# Altium footprint library mirco2440-4l1.PcbLib: 28 footprints (part 2 of 2)
Each footprint in its own frame and in the unit in brackets; x right, y up, seen from the top. Pads: shape width x height; smd on the part's side, far side on the other; paste and mask are expansions set on the pad; w line width, h text height; cw(c..) or ccw(c..) is an arc to the next point about the centre after c.
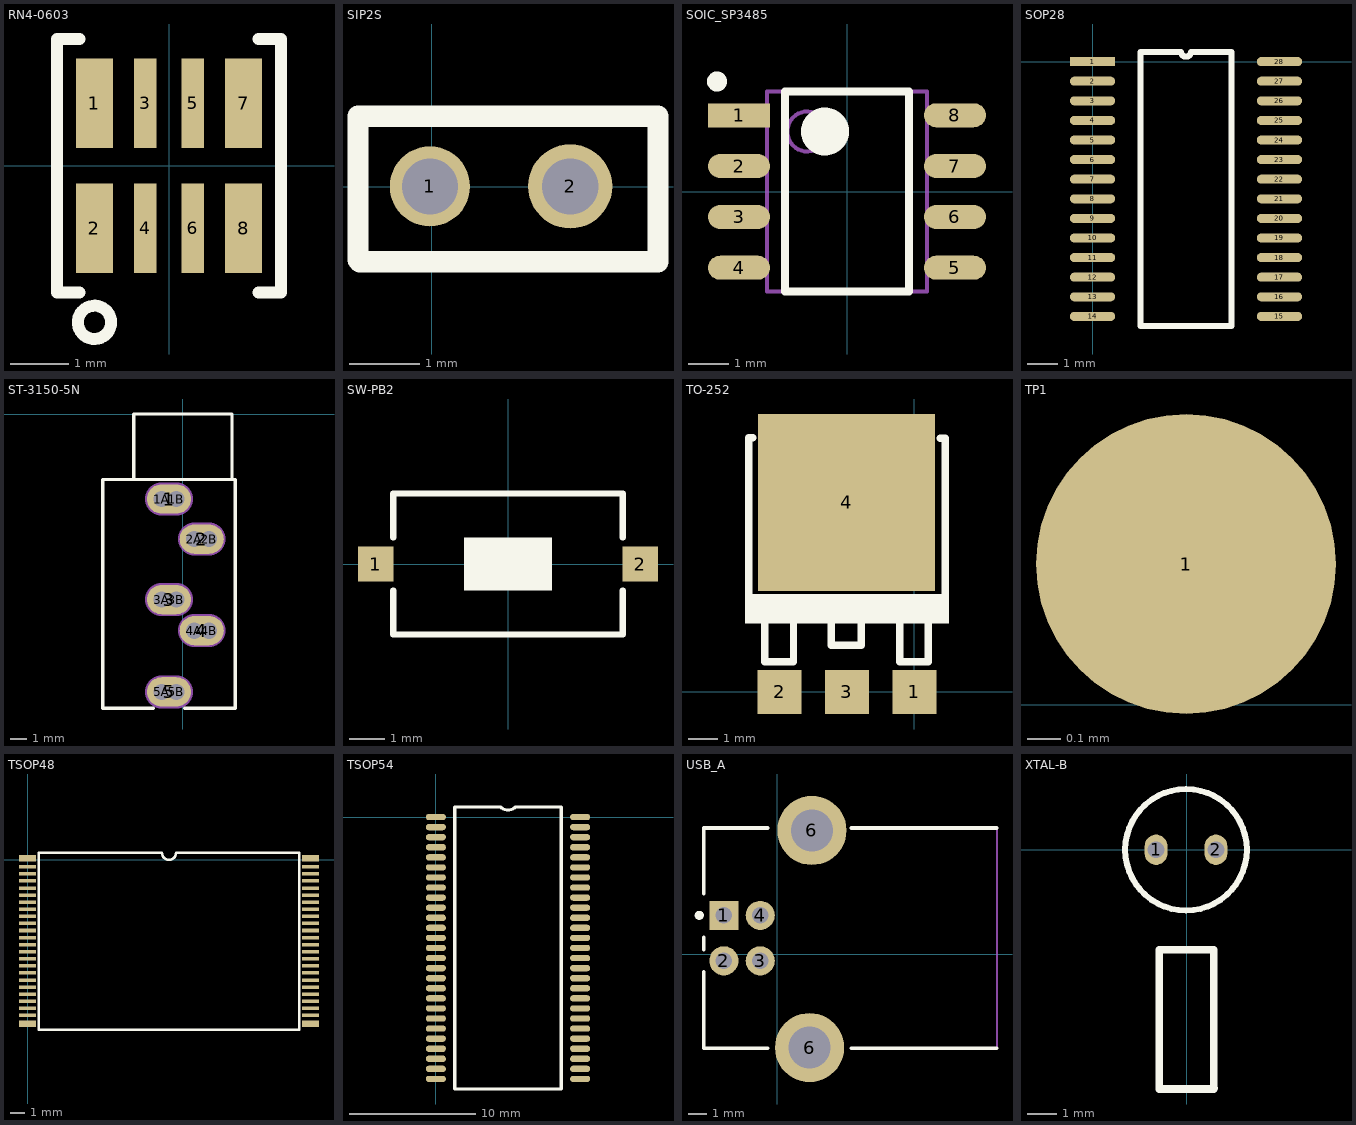
[diagram p1: the footprints below, top view; thin cyan lines are the x and y axes]

## RN4-0603 [mil]
pads (8):
  rect 25x60 smd: 1(-50,42) 2(-50,-42) 7(50,42) 8(50,-42)
  rect 15x60 smd: 3(-16,42) 4(-16,-42) 5(16,42) 6(16,-42)
Top Overlay:
  circle w8: c-50,-105 r11.18
  lines w8: -60,-85 -75,-85 -75,85 -60,85 ; 60,-85 75,-85 75,85 60,85

## SIP2S [mm]
pads (2):
  round 1.143 hole 0.8: 1(-0.027,0.005)
  round 1.2 hole 0.8: 2(1.973,0.005)
Top Overlay:
  lines w0.305: -1.052,-1.045 -1.027,-1.07 3.225,-1.07 3.225,1.005 -1.052,1.005 -1.052,0.005 -1.052,-1.045

## SOIC_SP3485 [mm]
height 4.65
pads (8):
  rect 1.55x0.6 smd: 1(-2.7,1.905)
  oval 1.55x0.6 smd: 2(-2.7,0.635) 3(-2.7,-0.635) 4(-2.7,-1.905) 5(2.7,-1.905) 6(2.7,-0.635) 7(2.7,0.635) 8(2.7,1.905)
Mid-Layer 2:
  lines w0.05: -0.5,0 0.5,0 ; 0,-0.5 0,0.5 ; -3.75,-2.75 3.75,-2.75 3.75,2.75 -3.75,2.75 -3.75,-2.75
Mid-Layer 3:
  lines w0.001: -1.994,-2.5 1.994,-2.5 1.994,2.5 -1.994,2.5 -1.994,-2.5
Top Overlay:
  circle w0.25: c-3.25,2.75 r0.125
  circle w0.6: c-0.55,1.5 r0.3
  lines w0.2: -1.55,-2.5 1.55,-2.5 1.55,2.5 -1.55,2.5 -1.55,-2.5
Mechanical 15:
  circle w0.1: c-0.994,1.5 r0.5
  lines w0.1: -1.994,-2.5 1.994,-2.5 1.994,2.5 -1.994,2.5 -1.994,-2.5
  text "1" at 0.45,-0.164 h0.75

## SOP28 [mm]
pads (28):
  rect 1.5x0.3 smd: 1(0,0)
  oval 1.5x0.3 smd: 2(0,-0.65) 3(0,-1.3) 4(0,-1.95) 5(0,-2.6) 6(0,-3.25) 7(0,-3.9) 8(0,-4.55) 9(0,-5.2) 10(0,-5.85) 11(0,-6.5) 12(0,-7.15) 13(0,-7.8) 14(0,-8.45) 15(6.2,-8.45) 16(6.2,-7.8) 17(6.2,-7.15) 18(6.2,-6.5) 19(6.2,-5.85) 20(6.2,-5.2) 21(6.2,-4.55) 22(6.2,-3.9) 23(6.2,-3.25) 24(6.2,-2.6) 25(6.2,-1.95) 26(6.2,-1.3) 27(6.2,-0.65) 28(6.2,0)
Top Overlay:
  lines w0.2: 1.585,-8.775 1.585,0.325 2.937,0.325 ccw(c3.1,0.325) 3.262,0.325 4.615,0.325 4.615,-8.775 1.585,-8.775

## ST-3150-5N [mm] "Connector; Stereo Jack, 3.5mm, 5 Position"
pads (15):
  oval 2.7x1.8 all layers, no hole: 1(-0.85,-5.2) 2(1.15,-7.65) 3(-0.85,-11.35) 4(1.15,-13.25) 5(-0.85,-17)
  round 1.2 hole 1: 1A(-1.3,-5.2) 1B(-0.4,-5.2) 2A(0.7,-7.65) 2B(1.6,-7.65) 3A(-1.3,-11.35) 3B(-0.4,-11.35) 4A(0.7,-13.25) 4B(1.6,-13.25) 5A(-1.3,-17) 5B(-0.4,-17)
Top Overlay:
  lines w0.2: -3,-4 -3,0 3,0 3,-4 ; -1.8,-18 -4.9,-18 -4.9,-4 3.2,-4 3.2,-18 0.1,-18
Mechanical 1:
  lines w1: -1.3,-17 -0.4,-17 ; -1.3,-11.35 -0.4,-11.35 ; -1.3,-5.2 -0.4,-5.2 ; 0.7,-13.25 1.6,-13.25 ; 0.7,-7.65 1.6,-7.65
Mechanical 2:
  lines w2.016: -1.3,-17 -0.4,-17 ; -1.3,-11.35 -0.4,-11.35 ; -1.3,-5.2 -0.4,-5.2 ; 0.7,-13.25 1.6,-13.25 ; 0.7,-7.65 1.6,-7.65

## SW-PB2 [mm]
pads (2):
  rect 1x1 smd: 1(-3.75,0) 2(3.75,0)
Top Overlay:
  rectangle: -1.25,-0.75 1.25,0.75
  lines w0.178: -3.25,-0.75 -3.25,-2 3.25,-2 3.25,-0.75 ; -3.25,0.75 -3.25,2 3.25,2 3.25,0.75

## TO-252 [mm]
pads (4):
  rect 1.5x1.5 smd: 1(0.003,-0.012) 2(-4.569,-0.012) 3(-2.283,-0.012)
  rect 6x6 smd: 4(-2.297,6.413)
Top Overlay:
  rectangle: -5.745,2.312 1.18,3.312
  lines w0.254: -5.622,3.138 -5.622,8.613 ; -5.597,8.613 -5.472,8.613 ; -5.072,2.263 -5.072,1.013 -4.097,1.013 -4.097,2.288 ; -2.822,2.263 -2.822,1.563 -1.797,1.563 -1.797,2.363 ; -0.497,2.263 -0.497,1.013 0.478,1.013 0.478,2.288 ; 0.878,8.588 1.028,8.588 ; 1.053,3.163 1.053,8.588

## TP1 [mil]
pads (1):
  round 35 smd: 1(79.4,16.4)

## TSOP48 [mm]
pads (48):
  rect 1.2x0.45 smd: 1(-0.021,0.113) 24(-0.021,-11.587) 25(19.979,-11.587) 48(19.979,0.113)
  rect 1.2x0.25 smd: 2(-0.021,-0.487) 3(-0.021,-0.987) 4(-0.021,-1.487) 5(-0.021,-1.987) 6(-0.021,-2.487) 7(-0.021,-2.987) 8(-0.021,-3.487) 9(-0.021,-3.987) 10(-0.021,-4.487) 11(-0.021,-4.987) 12(-0.021,-5.487) 13(-0.021,-5.987) 14(-0.021,-6.487) 15(-0.021,-6.987) 16(-0.021,-7.487) 17(-0.021,-7.987) 18(-0.021,-8.487) 19(-0.021,-8.987) 20(-0.021,-9.487) 21(-0.021,-9.987) 22(-0.021,-10.487) 23(-0.021,-10.987) 26(19.979,-10.987) 27(19.979,-10.487) 28(19.979,-9.987) 29(19.979,-9.487) 30(19.979,-8.987) 31(19.979,-8.487) 32(19.979,-7.987) 33(19.979,-7.487) 34(19.979,-6.987) 35(19.979,-6.487) 36(19.979,-5.987) 37(19.979,-5.487) 38(19.979,-4.987) 39(19.979,-4.487) 40(19.979,-3.987) 41(19.979,-3.487) 42(19.979,-2.987) 43(19.979,-2.487) 44(19.979,-1.987) 45(19.979,-1.487) 46(19.979,-0.987) 47(19.979,-0.487)
Top Overlay:
  lines w0.178: 0.779,-11.987 0.779,0.513 9.479,0.513 ccw(c9.979,0.513) 10.479,0.513 19.179,0.513 19.179,-11.987 0.779,-11.987

## TSOP54 [mm]
pads (54):
  oval 1.6x0.5 smd: 1(-0.007,-0.003) 2(-0.007,-0.803) 3(-0.007,-1.603) 4(-0.007,-2.403) 5(-0.007,-3.203) 6(-0.007,-4.003) 7(-0.007,-4.803) 8(-0.007,-5.603) 9(-0.007,-6.403) 10(-0.007,-7.203) 11(-0.007,-8.003) 12(-0.007,-8.803) 13(-0.007,-9.603) 14(-0.007,-10.403) 15(-0.007,-11.203) 16(-0.007,-12.003) 17(-0.007,-12.803) 18(-0.007,-13.603) 19(-0.007,-14.403) 20(-0.007,-15.203) 21(-0.007,-16.003) 22(-0.007,-16.803) 23(-0.007,-17.603) 24(-0.007,-18.403) 25(-0.007,-19.203) 26(-0.007,-20.003) 27(-0.007,-20.803) 28(11.453,-20.803) 29(11.453,-20.003) 30(11.453,-19.203) 31(11.453,-18.403) 32(11.453,-17.603) 33(11.453,-16.803) 34(11.453,-16.003) 35(11.453,-15.203) 36(11.453,-14.403) 37(11.453,-13.603) 38(11.453,-12.803) 39(11.453,-12.003) 40(11.453,-11.203) 41(11.453,-10.403) 42(11.453,-9.603) 43(11.453,-8.803) 44(11.453,-8.003) 45(11.453,-7.203) 46(11.453,-6.403) 47(11.453,-5.603) 48(11.453,-4.803) 49(11.453,-4.003) 50(11.453,-3.203) 51(11.453,-2.403) 52(11.453,-1.603) 53(11.453,-0.803) 54(11.453,-0.003)
Top Overlay:
  lines w0.254: 1.493,-21.603 9.953,-21.603 9.953,0.797 6.314,0.797 cw(c5.723,1.388) 5.132,0.797 1.493,0.797 1.493,-21.603

## USB_A [mm]
pads (6):
  rect 1.6x1.6 hole 0.92: 1(-2.945,2.139)
  round 1.6 hole 0.92: 2(-2.945,-0.361) 3(-0.945,-0.361) 4(-0.945,2.139)
  round 3.8 hole 2.3: 6(1.765,-5.131) 6(1.892,6.807)
Top Overlay:
  circle w0.25: c-4.295,2.139 r0.125
  lines w0.2: -4.055,-0.961 -4.055,-5.161 -0.535,-5.161 ; -4.055,0.239 -4.055,0.939 ; -4.055,3.339 -4.055,6.939 -0.535,6.939 ; 4.065,-5.161 12.045,-5.161 ; 4.065,6.939 12.045,6.939
Mechanical 1:
  lines w0.1: 12.065,-5.161 12.065,6.939
  text "PCB Edge" at 11.74,-4.763 h0.25

## XTAL-B [mil]
pads (2):
  oval 30x40 hole 22: 1(-40.15,0.05) 2(38.59,0.05)
Top Overlay:
  circle w7.87: c-0.78,0.05 r80
  lines w10: 36.62,-313.93 35.64,-314.91 ; 35.64,-314.91 35.64,-131.84 -36.21,-131.84 -36.21,-314.91 35.64,-314.91